# Altium footprint library PQFN50P200X200100-12N.PcbLib: 1 footprints
Each footprint in its own frame and in the unit in brackets; x right, y up, seen from the top. Pads: shape width x height; smd on the part's side, far side on the other; paste and mask are expansions set on the pad; w line width, h text height; cw(c..) or ccw(c..) is an arc to the next point about the centre after c.
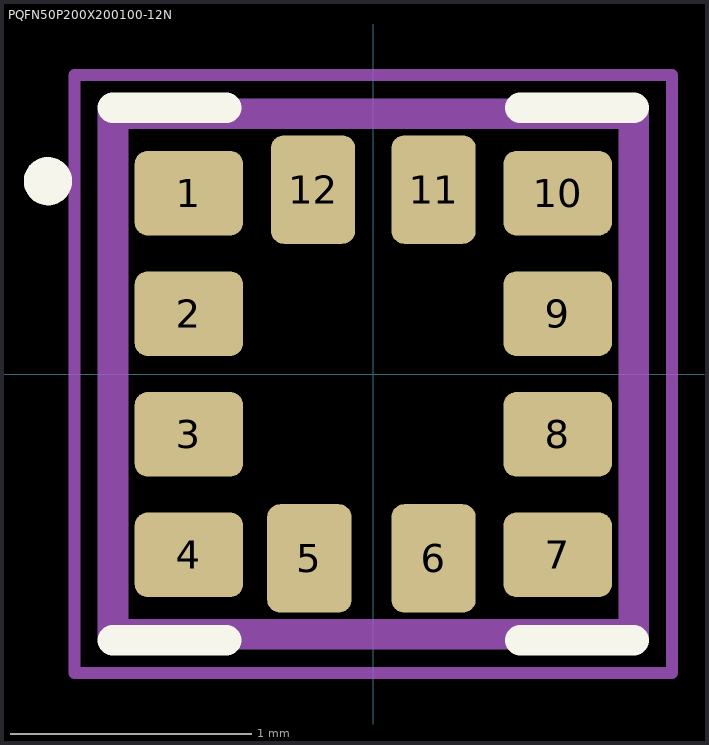
[diagram p0: the footprint, top view; thin cyan lines are the x and y axes]

## PQFN50P200X200100-12N [mm]
pads (12):
  rrect30% 0.45x0.35 smd: 1(-0.765,0.75) 2(-0.765,0.25) 3(-0.765,-0.25) 4(-0.765,-0.75) 7(0.765,-0.75) 8(0.765,-0.25) 9(0.765,0.25) 10(0.765,0.75)
  rrect30% 0.35x0.45 smd: 5(-0.265,-0.765) 6(0.25,-0.765) 11(0.25,0.765) 12(-0.25,0.765)
Top Overlay:
  circle w0.1: c-1.35,0.8 r0.05
  lines w0.127: -1.08,-1.105 -0.61,-1.105 ; -1.08,1.105 -0.61,1.105 ; 0.61,-1.105 1.08,-1.105 ; 0.61,1.105 1.08,1.105
Mechanical 13:
  circle w0.1: c-0.78,0.8 r0.05
  lines w0.127: -1.08,-1.08 1.08,-1.08 1.08,1.08 -1.08,1.08 -1.08,-1.08
Mechanical 15:
  lines w0.05: -1.24,-1.24 1.24,-1.24 1.24,1.24 -1.24,1.24 -1.24,-1.24
3D body "step_temp.STEP": height 1, standoff 0, extent -1,-1 1,1